# Altium schematic symbol library Schlib1.SchLib: 31 symbols
Pins are listed as number, name and electrical type; pins without a type are passive.

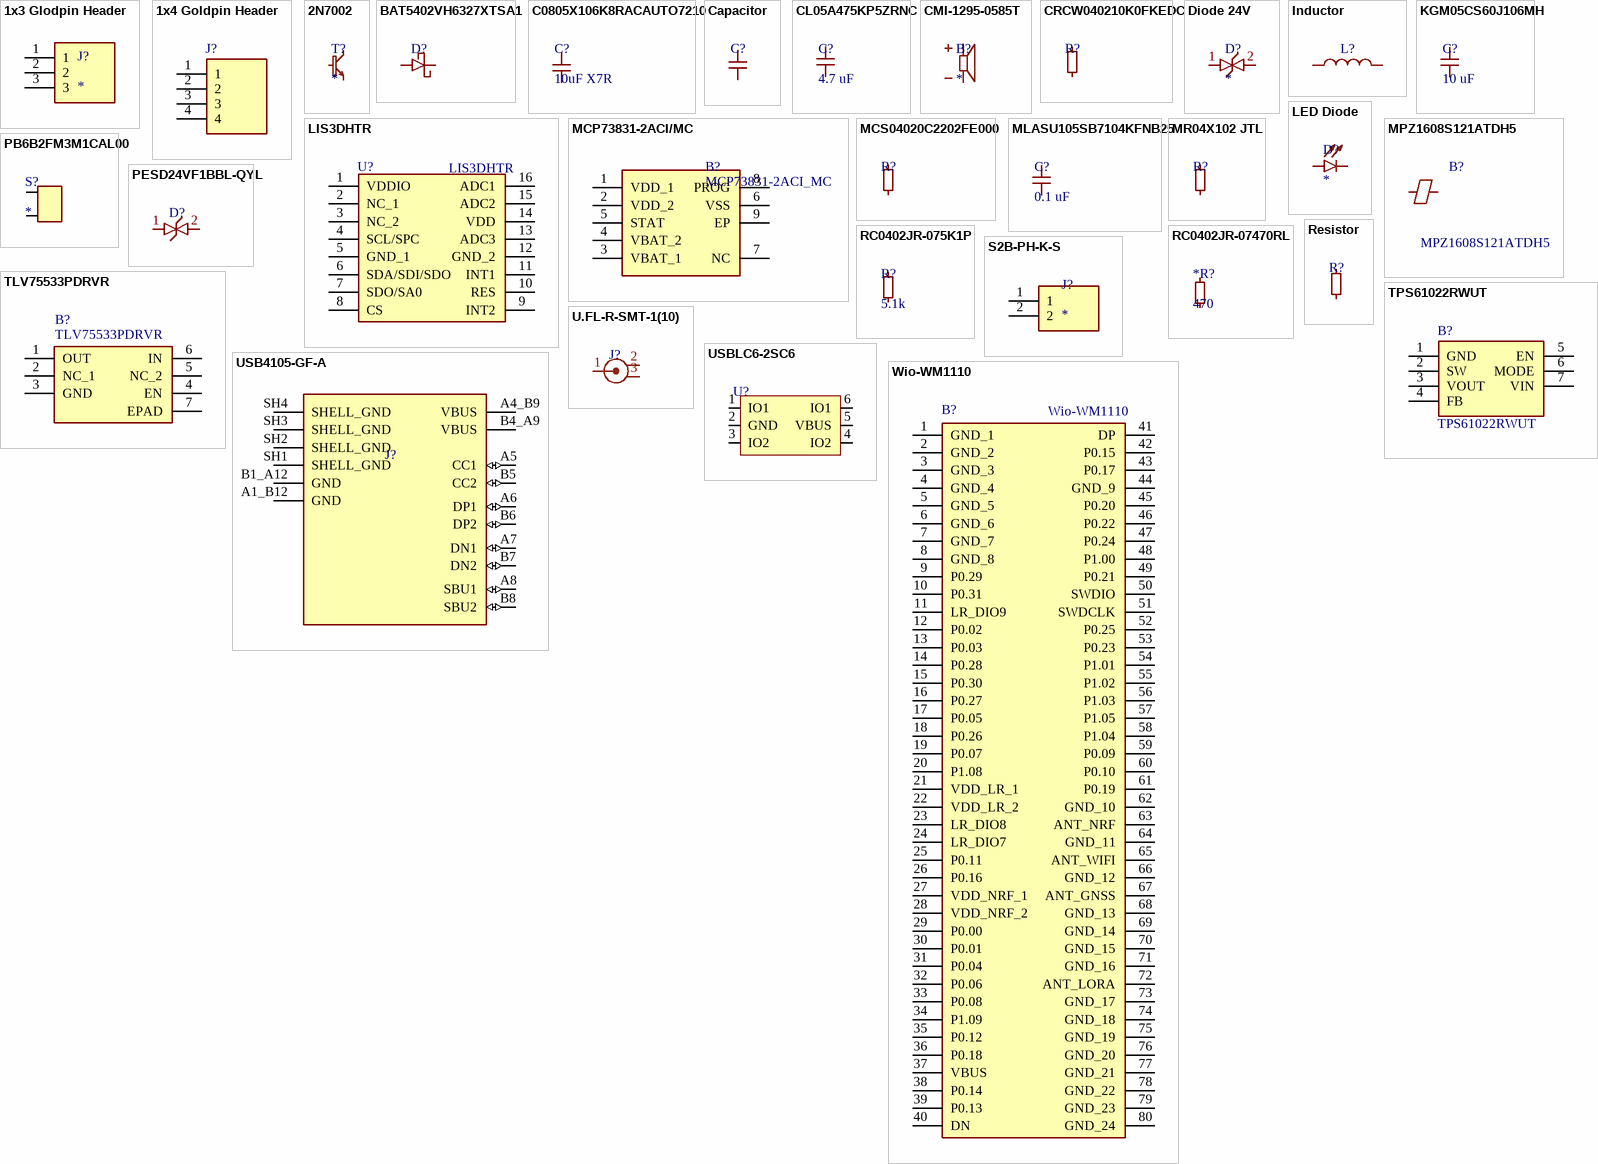
[diagram p0: symbols 1x3 Glodpin Header to Wio-WM1110]

## 1x3 Glodpin Header
designator J?
Conn Unshrouded Header HDR 3 POS 2.54mm Solder ST Thru-Hole Bag/Box; MF: TE Connectivity; MP: 644884-3; SnapEDA_Link: https://www.snapeda.com/parts/644884-3/TE+Connectivity+AMP+Connectors/view-part/?ref=snap; Package: None; Value: *; EU_RoHS_Compliance: Compliant; Check_prices: https://www.snapeda.com/parts/644884-3/TE+Connectivity+AMP+Connectors/view-part/?ref=eda
footprint 1x3 Goldpin Header (2.54mm)
pins: 1, 2, 3

## 1x4 Goldpin Header
designator J?, comment 22-10-2041  (value not drawn)
Headers & Wire Housings VERT PCB HDR 4P GOLD PLATING; Manufacturer_Name: Molex; Geometry.Height: 11.17mm; Mouser Part Number: 538-22-10-2041; Mouser Price/Stock: https://www.mouser.co.uk/ProductDetail/Molex/22-10-2041?qs=I2tGkhXPHwPlInpHG6ZNmQ%3D%3D; Manufacturer_Part_Number: 22-10-2041; Datasheet Link: https://www.molex.com/en-us/products/part-detail/22102041?display=pdf
footprint 1x4 Goldpin Header (2.54 mm)
pins: 1, 2, 3, 4

## 2N7002
designator T?
Transistor
footprint 2N7002 (Transistor)
pins: 1 G, 2 S, 3 D

## BAT5402VH6327XTSA1
designator D?  (value not drawn)
Schottky Diode
footprint BAT5402VH6327XTSA1 (Schottky)
pins: 1 K, 2 A

## C0805X106K8RACAUTO7210
designator C?, comment 10uF X7R
footprint CAPC2012X145N
pins: 1, 2

## Capacitor
designator C?  (value not drawn)
pins: 1, 2

## CL05A475KP5ZRNC
designator C?, comment 4.7 uF
4.7 uF 0402 Capacitor
footprint KGM05CS60J106MH (10 uF)
pins: 1, 2

## CMI-1295-0585T
designator B?
Buzzer
footprint CMI-1295-0585T (Buzzer)
pins: N, P

## CRCW040210K0FKEDC
designator R?, comment 10k  (value not drawn)
10k 0402 Resistor
footprint RESC1005X35N (10k resistor)
pins: 1, 2

## Diode 24V
designator D?
REPLACE
pins: 1 K, 2 A

## Inductor
designator L?  (value not drawn)
pins: 1, 2

## KGM05CS60J106MH
designator C?, comment 10 uF
10 uF Capacitor
footprint KGM05CS60J106MH (10 uF)
pins: 1, 2

## LED Diode
designator D?
LED
footprint LED Diode
pins: 1 K, 2 A

## LIS3DHTR
designator U?
Accelerometer 3-Axis 2g/16g 1.8V LGA16 STMicroelectronics LIS3DHTR Accelerometer IC, 3-axis, I2C, SPI 1.71  3.6 V, 16-Pin LGA; Geometry.Height: 1mm; Mouser Part Number: 511-LIS3DHTR; Mouser Price/Stock: https://www.mouser.co.uk/ProductDetail/STMicroelectronics/LIS3DHTR?qs=6la6oa3D8xzhXYax3cEo4w%3D%3D; Manufacturer_Name: STMicroelectronics; Manufacturer_Part_Number: LIS3DHTR; Datasheet Link: https://www.st.com/resource/en/datasheet/lis3dh.pdf
footprint LIS3DHTR
pins: 1 VDDIO (power), 2 NC_1, 3 NC_2, 4 SCL/SPC, 5 GND_1, 6 SDA/SDI/SDO, 7 SDO/SA0, 8 CS, 9 INT2, 10 RES, 11 INT1, 12 GND_2, 13 ADC3, 14 VDD (power), 15 ADC2, 16 ADC1

## MCP73831-2ACI/MC
designator B?, comment MCP73831-2ACI_MC
Battery Charge Controller Lithium-Ion, Lithium-Polymer, 8-pin DFN; Manufacturer_Name: Microchip; Manufacturer_Part_Number: MCP73831-2ACI/MC; Geometry.Height: 1mm; Mouser Part Number: 579-MCP73831-2ACI/MC; Mouser Price/Stock: https://www.mouser.co.uk/ProductDetail/Microchip-Technology/MCP73831-2ACI-MC?qs=hH%252BOa0VZEiBneYTVdpuVdg%3D%3D; Datasheet Link: https://datasheet.datasheetarchive.com/originals/distributors/SFDatasheet-4/sf-00090108.pdf
footprint MCP73831-2ACI/MC (Charger)
pins: 1 VDD_1, 2 VDD_2, 3 VBAT_1, 4 VBAT_2, 5 STAT, 6 VSS, 7 NC, 8 PROG, 9 EP

## MCS04020C2202FE000
designator R?  (value not drawn)
22k Resistor
footprint CRCW040210K0FKEDC (10k resistor)
pins: 1, 2

## MLASU105SB7104KFNB25
designator C?, comment 0.1 uF
0.1uF Capacitor
footprint MLASU105SB7104KFNB25 (0.1 uF)
pins: 1, 2

## MPZ1608S121ATDH5
designator B?
Ferrite Beads 0603 120ohms 2000mA Power Line AEC-Q200; Manufacturer_Name: TDK; Geometry.Height: 0.75mm; Mouser Part Number: 810-MPZ1608S121ATDH5; Mouser Price/Stock: https://www.mouser.co.uk/ProductDetail/TDK/MPZ1608S121ATDH5?qs=pvNC7ksEVIcGR4VJPzSI2g%3D%3D; Manufacturer_Part_Number: MPZ1608S121ATDH5; Datasheet Link: https://product.tdk.com/system/files/dam/doc/product/emc/emc/beads/catalog/beads_automotive_power_mpz1608_en.pdf
footprint MPZ1608S121ATDH5
pins: 1, 2

## MR04X102 JTL
designator R?  (value not drawn)
1k 0402 Resistor
footprint MR04X102 JTL (1k 0402)
pins: 1, 2

## PB6B2FM3M1CAL00
designator S?
Switch
footprint PB6B2FM3M1CAL00 (Switch)
pins: 1, 2

## PESD24VF1BBL-QYL
designator D?
24 V, Bidirectional
footprint PESD24VF1BBLQYL
pins: 1 K, 2 A

## RC0402JR-075K1P
designator R?, comment 5.1k
5.1k resistor; ComponentLink1Description: Mouser link; ComponentLink1URL: https://www.mouser.pl/ProductDetail/YAGEO/RC0402JR-075K1P?qs=qpJ%252B%252B%252Bdg6p1LG47uFSJoBw%3D%3D
footprint RESC1005X40N
pins: 1, 2

## RC0402JR-07470RL
designator *R?, comment 470
470 Ohm 0402 Resistor
footprint CRCW040210K0FKEDC (10k resistor)
pins: 1, 2

## Resistor
designator R?  (value not drawn)
pins: 1, 2

## S2B-PH-K-S
designator J?
Connector Header Through Hole, Right Angle 2 position; MP: S2B-PH-K-S(LF)(SN); MF: JST Sales America Inc.; Price: None; Availability: In Stock; Package: None; Value: *; SnapEDA_Link: https://www.snapeda.com/parts/S2B-PH-K-S(LF)(SN)/JST+Sales+America+Inc./view-part/?ref=snap; Purchase-URL: https://pricing.snapeda.com/search/part/S2B-PH-K-S(LF)(SN)/?ref=eda; Check_prices: https://www.snapeda.com/parts/S2B-PH-K-S(LF)(SN)/JST+Sales+America+Inc./view-part/?ref=eda
footprint S2B-PH-K-S (JST-PH 2.0)
pins: 1, 2

## TLV75533PDRVR
designator B?
500-mA low-IQ small-size low-dropout (LDO) regulator; Manufacturer_Name: Texas Instruments; Geometry.Height: 0.8mm; Mouser Part Number: 595-TLV75533PDRVR; Mouser Price/Stock: https://www.mouser.co.uk/ProductDetail/Texas-Instruments/TLV75533PDRVR?qs=lc2O%252BfHJPVbmKlktYGVy6A%3D%3D; Manufacturer_Part_Number: TLV75533PDRVR; Datasheet Link: http://www.ti.com/lit/gpn/tlv755p
footprint TLV75533PDRVR (LDO)
pins: 1 OUT, 2 NC_1, 3 GND, 4 EN, 5 NC_2, 6 IN, 7 EPAD

## TPS61022RWUT
designator B?
Switching Voltage Regulators 8-A boost converter with 0.5-V ultra-low input voltage 7-VQFN-HR -40 to 125; Manufacturer_Name: Texas Instruments; Geometry.Height: 1mm; Mouser Part Number: 595-TPS61022RWUT; Mouser Price/Stock: https://www.mouser.co.uk/ProductDetail/Texas-Instruments/TPS61022RWUT?qs=vLWxofP3U2xU7G%2FuAQNIxA%3D%3D; Manufacturer_Part_Number: TPS61022RWUT; Datasheet Link: http://www.ti.com/lit/ds/symlink/tps61022.pdf
footprint TPS61022RWUT (3.7V -> 5V Boost)
pins: 1 GND, 2 SW, 3 VOUT, 4 FB, 5 EN, 6 MODE, 7 VIN

## U.FL-R-SMT-1(10)
designator J?  (value not drawn)
Antenna Connector
pins: 1, 2, 3

## USB4105-GF-A
designator J?  (value not drawn)
USB-C Connector, USB 2.0; MF: {'manufacturer': u'GCT'}; MP: USB4105-GF-A; Package: None; Price: None; Value: *; Availability: Unavailable
footprint GCT_USB4105-GF-A
pins: A1_B12 GND (power), A4_B9 VBUS (power), A5 CC1 (io), A6 DP1 (io), A7 DN1 (io), A8 SBU1 (io), B1_A12 GND (power), B4_A9 VBUS (power), B5 CC2 (io), B6 DP2 (io), B7 DN2 (io), B8 SBU2 (io), SH1 SHELL_GND (power), SH2 SHELL_GND (power), SH3 SHELL_GND (power), SH4 SHELL_GND (power)

## USBLC6-2SC6
designator U?  (value not drawn)
ESD/TVS Diodes; ComponentLink1Description: Mouser Link; ComponentLink1URL: https://www.mouser.pl/ProductDetail/STMicroelectronics/USBLC6-2SC6?qs=po45yt2pPpu%2FhNIlwQdTlg%3D%3D&utm_id=9882661914&utm_source=google&utm_medium=cpc&utm_marketing_tactic=emeacorp&gad_source=1&gad_campaignid=9882661914&gbraid=0AAAAADn_wf3e2b9L6UzwCvd5llWdJDX32&gclid=CjwKCAiAtLvMBhB_EiwA1u6_PphI6vqALNJyH9qzLX2TgkqKXihyqulPr-2MUC0dCpD_RqMgLp4OABoC-lQQAvD_BwE
footprint USBLC6-2SC6
pins: 1 IO1, 2 GND, 3 IO2, 4 IO2, 5 VBUS, 6 IO1

## Wio-WM1110
designator B?
LoRa Wireless Module - Powered by Semtech; Manufacturer_Name: Seeed Studio; Geometry.Height: 2.3mm; Manufacturer_Part_Number: Wio-WM1110; Mouser Part Number: *; Mouser Price/Stock: *; Arrow Part Number: *; Arrow Price/Stock: *; Datasheet Link: https://files.seeedstudio.com/products/SenseCAP/Wio-WM1110/Wio-WM1110_Module_Datasheet_V1.3.pdf; ComponentLink1Description: Shop link; ComponentLink1URL: https://botland.com.pl/lokalizatory-gps-gsm-bluetooth/23517-wio-wm1110-uklad-loragpswifibluetooth-semtech-lr1110-nordic-nrf52840-seeedstudio-114992865.html
footprint WioWM1110
pins: 1 GND_1, 2 GND_2, 3 GND_3, 4 GND_4, 5 GND_5, 6 GND_6, 7 GND_7, 8 GND_8, 9 P0.29, 10 P0.31, 11 LR_DIO9, 12 P0.02, 13 P0.03, 14 P0.28, 15 P0.30, 16 P0.27, 17 P0.05, 18 P0.26, 19 P0.07, 20 P1.08, 21 VDD_LR_1, 22 VDD_LR_2, 23 LR_DIO8, 24 LR_DIO7, 25 P0.11, 26 P0.16, 27 VDD_NRF_1, 28 VDD_NRF_2, 29 P0.00, 30 P0.01, 31 P0.04, 32 P0.06, 33 P0.08, 34 P1.09, 35 P0.12, 36 P0.18, 37 VBUS, 38 P0.14, 39 P0.13, 40 DN, 41 DP, 42 P0.15, 43 P0.17, 44 GND_9, 45 P0.20, 46 P0.22, 47 P0.24, 48 P1.00, 49 P0.21, 50 SWDIO, 51 SWDCLK, 52 P0.25, 53 P0.23, 54 P1.01, 55 P1.02, 56 P1.03, 57 P1.05, 58 P1.04, 59 P0.09, 60 P0.10, 61 P0.19, 62 GND_10, 63 ANT_NRF, 64 GND_11, 65 ANT_WIFI, 66 GND_12, 67 ANT_GNSS, 68 GND_13, 69 GND_14, 70 GND_15, 71 GND_16, 72 ANT_LORA, 73 GND_17, 74 GND_18, 75 GND_19, 76 GND_20, 77 GND_21, 78 GND_22, 79 GND_23, 80 GND_24